# EAGLE library part NAU7802SGI (library NAU7802SGI)
24 Bit Analog to Digital Converter 2 Input 1 Sigma-Delta 16-SOP Source: Datasheet <https://www.nuvoton.com/resource-files/NAU7802 Data Sheet V1.7.pdf>
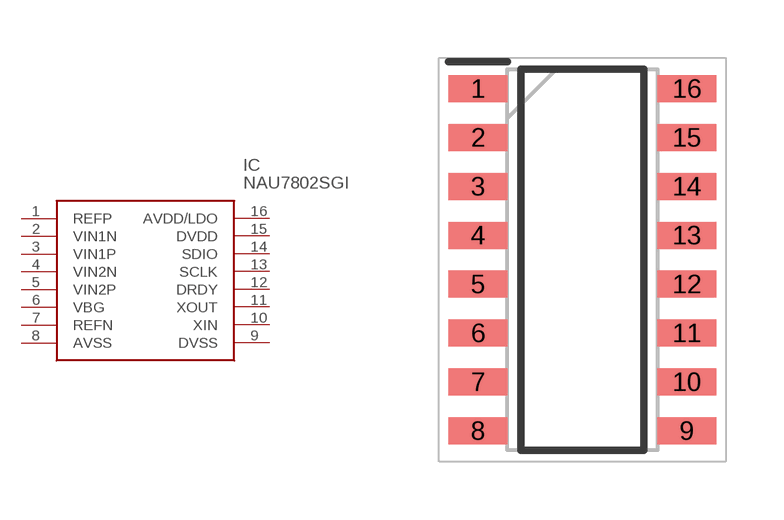
[diagram p0: symbol with the pads of SOIC127P600X175-16N; footprint SOIC127P600X175-16N]

Designator prefix IC

## NAU7802SGI (Description: 24 Bit Analog to Digital Converter 2 Input 1 Sigma-Delta 16-SOP; Height: 1.75mm; Manufacturer_Name: Nuvoton; Manufacturer_Part_Number: NAU7802SGI)  [SOIC127P600X175-16N]
1  REFP
2  VIN1N
3  VIN1P
4  VIN2N
5  VIN2P
6  VBG
7  REFN
8  AVSS
9  DVSS
10  XIN
11  XOUT
12  DRDY
13  SCLK
14  SDIO
15  DVDD
16  AVDD/LDO

## Footprint SOIC127P600X175-16N (pad centres in mm)
16L SOP – 150 mil
smd 1.525 x 0.7: 1 -2.712,4.445; 2 -2.712,3.175; 3 -2.712,1.905; 4 -2.712,0.635; 5 -2.712,-0.635; 6 -2.712,-1.905; 7 -2.712,-3.175; 8 -2.712,-4.445; 9 2.712,-4.445; 10 2.712,-3.175; 11 2.712,-1.905; 12 2.712,-0.635; 13 2.712,0.635; 14 2.712,1.905; 15 2.712,3.175; 16 2.712,4.445